# Altium footprint library XTAL_SMD_ABS25.PcbLib: 1 footprints
Each footprint in its own frame and in the unit in brackets; x right, y up, seen from the top. Pads: shape width x height; smd on the part's side, far side on the other; paste and mask are expansions set on the pad; w line width, h text height; cw(c..) or ccw(c..) is an arc to the next point about the centre after c.
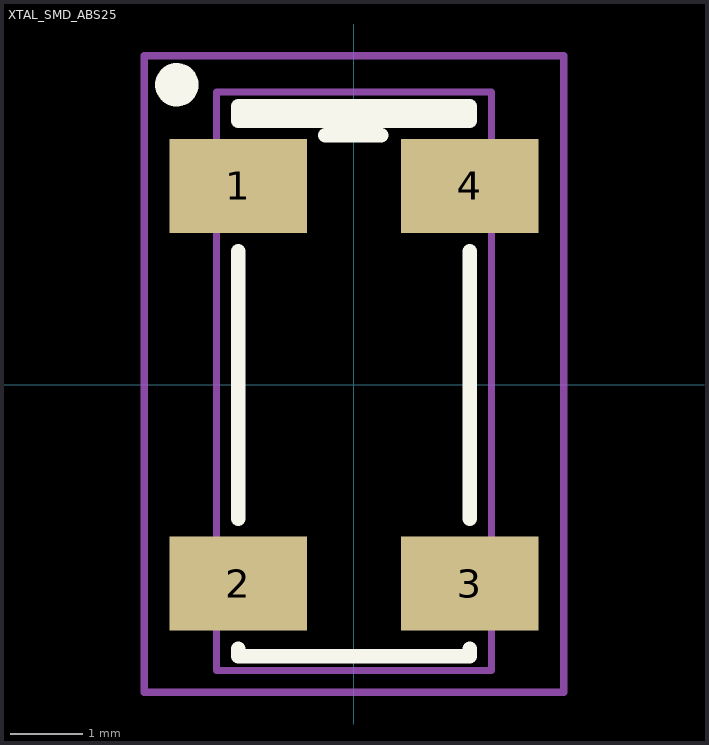
[diagram p0: the footprint, top view; thin cyan lines are the x and y axes]

## XTAL_SMD_ABS25 [mm]
pads (4):
  rect 1.9x1.3 smd: 1(-1.6,2.75) 2(-1.6,-2.75) 3(1.6,-2.75) 4(1.6,2.75)
Top Overlay:
  circle w0.3: c-2.451,4.15 r0.151
  lines w0.2: -1.6,-3.65 -1.6,-3.75 1.2,-3.75 1.6,-3.75 1.6,-3.65 ; -1.6,-1.85 -1.6,1.85 ; -1.6,3.65 -1.6,3.85 1.6,3.85 1.6,3.65 -1.575,3.65 ; -0.4,3.45 0.375,3.45 ; 1.6,-1.85 1.6,1.85
Mechanical 13:
  lines w0.1: -1.9,-3.95 -1.9,4.05 1.9,4.05 1.9,-3.95 -1.9,-3.95
Mechanical 15:
  lines w0.1: -2.9,-4.25 -2.9,4.55 -1.8,4.55 2.7,4.55 2.9,4.55 2.9,-4.25 -2.9,-4.25
3D body: height 2.66, standoff 0, extent -1.95,-4 1.95,4